# Altium schematic symbol library THM10-2411WI.SchLib: 1 symbol
Pins are listed as number, name and electrical type; pins without a type are passive.

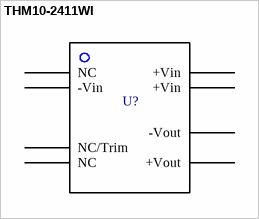
[diagram p0: symbol THM10-2411WI]

## THM10-2411WI
designator U?
footprint THM10-2411WI
pins: 1 NC, 2 -Vin, 10 NC/Trim, 11 NC, 14 +Vout, 16 -Vout, 22 +Vin, 23 +Vin